# EAGLE library part ROCKBLOCK+ (library SlideSentinel)
ROCKBLOCK+ Satcom modem attached to hub used for making web requests can receive emessages for remote configuration commands
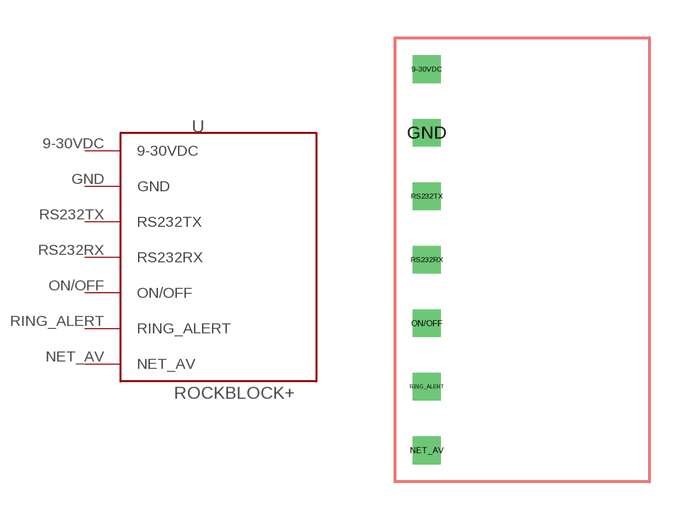
[diagram p2: symbol with the pads of ROCKBLOCK+; footprint ROCKBLOCK+]

Designator prefix -

## ROCKBLOCK+  [ROCKBLOCK+]
9-30VDC  9-30VDC
GND  GND
NET_AV  NET_AV
ON/OFF  ON/OFF
RING_ALERT  RING_ALERT
RS232RX  RS232RX
RS232TX  RS232TX

## Footprint ROCKBLOCK+ (pad centres in mm)
drill 0.6 square: 9-30VDC -13.97,6.35; GND -13.97,3.81; NET_AV -13.97,-8.89; ON/OFF -13.97,-3.81; RING_ALERT -13.97,-6.35; RS232RX -13.97,-1.27; RS232TX -13.97,1.27